# Altium schematic symbol library AUVic_Schematic_Library_Relays.SchLib: 1 symbol
Pins are listed as number, name and electrical type; pins without a type are passive.

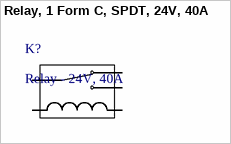
[diagram p0: symbol Relay, 1 Form C, SPDT, 24V, 40A]

## Relay, 1 Form C, SPDT, 24V, 40A
designator K?, comment Relay - 24V, 40A
Relay, 1 Form C, SPDT, 24V, 40A; Supplier 1: Digi-Key; Supplier Part Number 1: PB1042-ND
footprint 1432871-1 Relay Footprint
pins: 30, 85, 86, 87, 87a